# Altium footprint library LCD 16X2 NEW_design.PcbLib: 1 footprints
Each footprint in its own frame and in the unit in brackets; x right, y up, seen from the top. Pads: shape width x height; smd on the part's side, far side on the other; paste and mask are expansions set on the pad; w line width, h text height; cw(c..) or ccw(c..) is an arc to the next point about the centre after c.
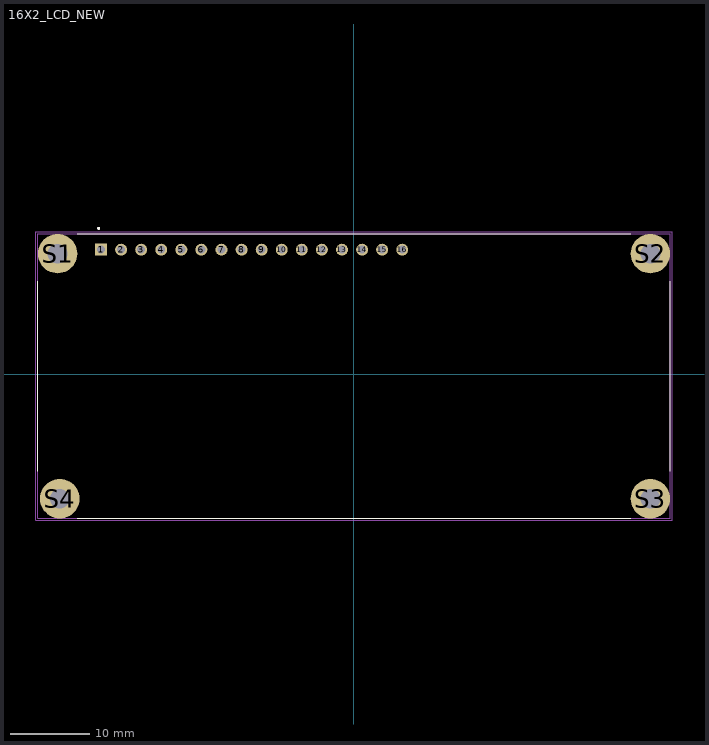
[diagram p0: the footprint, top view; thin cyan lines are the x and y axes]

## 16X2_LCD_NEW [mm] "HEADER"
height 12.7
pads (20):
  rect 1.508x1.508 / inner round 1.508 / far side rect 1.508x1.508 hole 1: 1(-32,15.75)
  round 1.508 hole 1: 2(-29.46,15.75) 3(-26.92,15.75) 4(-24.38,15.75) 5(-21.84,15.75) 6(-19.3,15.75) 7(-16.76,15.75) 8(-14.22,15.75) 9(-11.68,15.75) 10(-9.14,15.75) 11(-6.6,15.75) 12(-4.06,15.75) 13(-1.52,15.75) 14(1.02,15.75) 15(3.56,15.75) 16(6.1,15.75)
  round 5 hole 2.5: S1(-37.5,15.25) S2(37.5,15.25) S3(37.5,-15.75) S4(-37.211,-15.744)
Top Overlay:
  circle w0.2: c-32.3,18.45 r0.1
  lines w0.127: -40,-12.25 -40,11.75 ; -35,-18.25 35,-18.25 ; -35,17.75 35,17.75 ; 40,-12.25 40,11.75
Mechanical 13:
  circle w0.2: c-32.3,18.45 r0.1
  lines w0.127: -40,-18.25 -40,17.75 40,17.75 40,-18.25 -40,-18.25
Mechanical 15:
  lines w0.05: -40.25,-18.5 40.25,-18.5 40.25,18 -40.25,18 -40.25,-18.5
3D body "LCD 16x2 HD44780 assembly.stp": height 16.8, standoff 1.47, extent -40.254,-17.966 39.746,18.034
3D body "61301611821--3DModel-STEP-967685.STEP": height 8.25, standoff -3.35, extent -33.528,14.391 7.612,16.891
3D body "M3_F_TO_F_10MM_STANDOFF.STEP": height 10, standoff 0, extent -39.965,-18.792 -34.965,-13.018
3D body "M3_F_TO_F_10MM_STANDOFF.STEP": height 10, standoff 0, extent -40,12.363 -35,18.137
3D body "M3_F_TO_F_10MM_STANDOFF.STEP": height 10, standoff 0, extent 35,12.363 40,18.137
3D body "M3_F_TO_F_10MM_STANDOFF.STEP": height 10, standoff 0, extent 35,-18.637 40,-12.863